# Altium schematic symbol library OLED_0.96.SchLib: 1 symbol
Pins are listed as number, name and electrical type; pins without a type are passive.

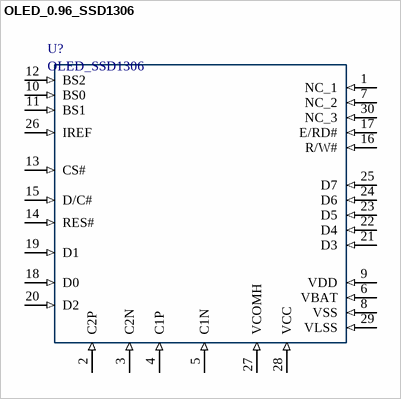
[diagram p0: symbol OLED_0.96_SSD1306]

## OLED_0.96_SSD1306
designator U?, comment OLED_SSD1306
OLED_0.96寸_SSD1306，裸屏接口
footprint 30P_0.7mm (OLED_SSD1306)
pins: 1 NC_1 (in), 2 C2P (in), 3 C2N (in), 4 C1P (in), 5 C1N (in), 6 VBAT (in), 7 NC_2 (in), 8 VSS (in), 9 VDD (in), 10 BS0 (in), 11 BS1 (in), 12 BS2 (in), 13 CS# (in), 14 RES# (in), 15 D/C# (in), 16 R/W# (in), 17 E/RD# (in), 18 D0 (in), 19 D1 (in), 20 D2 (in), 21 D3 (in), 22 D4 (in), 23 D5 (in), 24 D6 (in), 25 D7 (in), 26 IREF (in), 27 VCOMH (in), 28 VCC (in), 29 VLSS (in), 30 NC_3 (in)